# Altium footprint library CONNECTOR_WIRE2BOARD.PcbLib: 11 footprints
Each footprint in its own frame and in the unit in brackets; x right, y up, seen from the top. Pads: shape width x height; smd on the part's side, far side on the other; paste and mask are expansions set on the pad; w line width, h text height; cw(c..) or ccw(c..) is an arc to the next point about the centre after c.
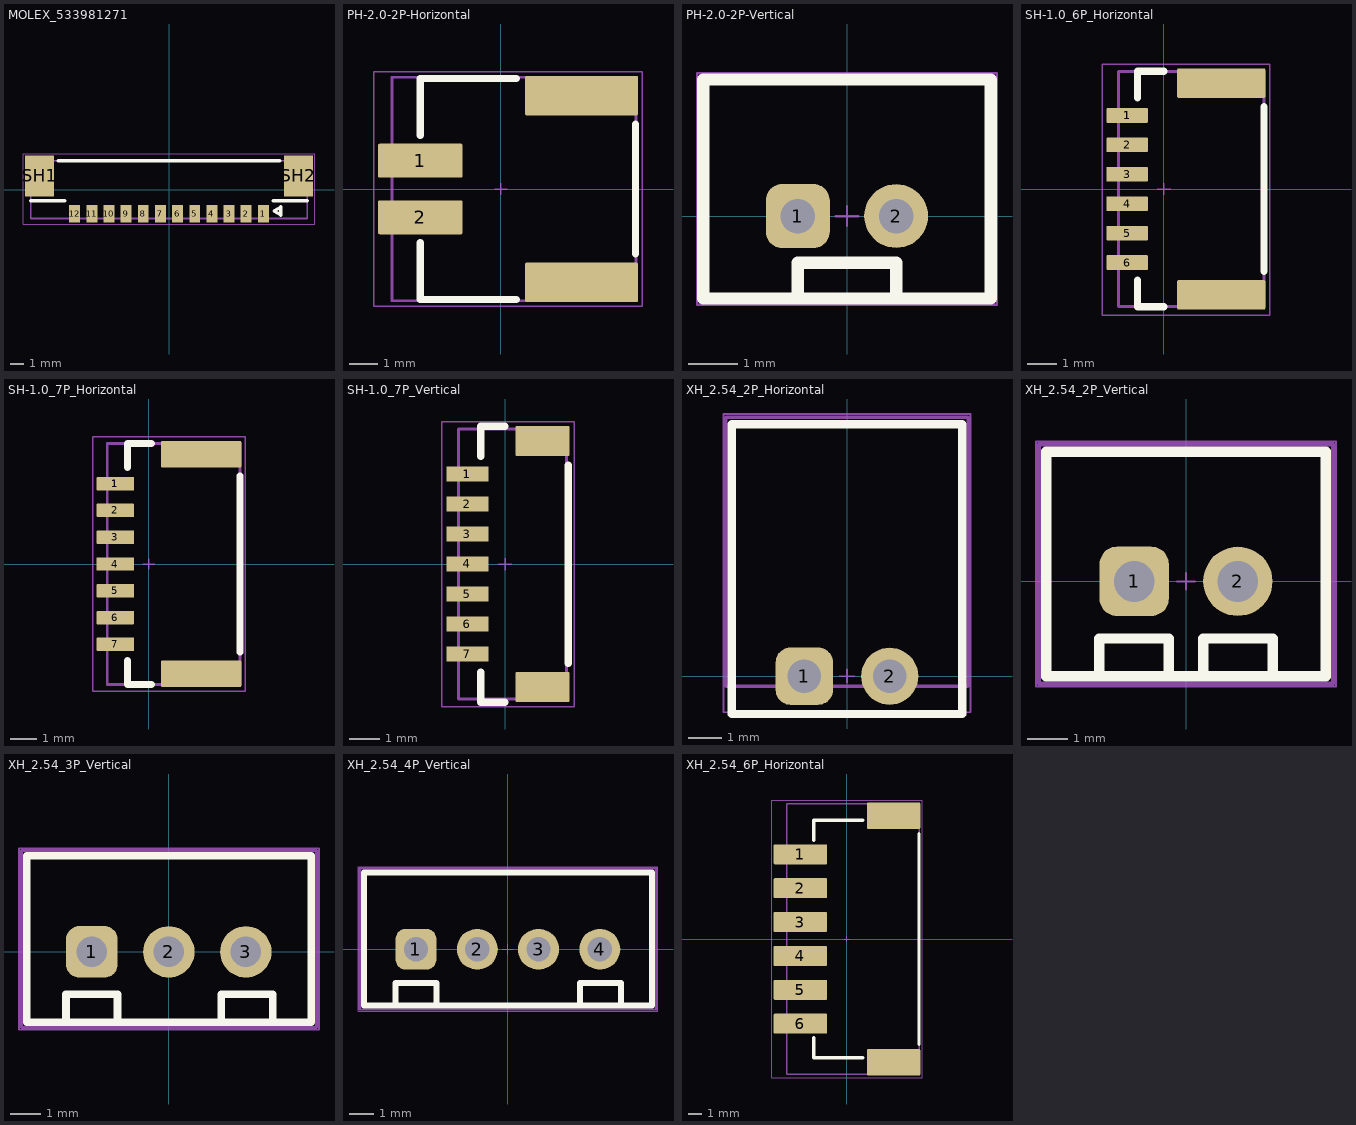
[diagram p0: the footprints below, top view; thin cyan lines are the x and y axes]

## MOLEX_533981271 [mm]
height 4.7
pads (14):
  rect 0.8x1.3 smd mask+0.076: 1(6.875,-1.75) 2(5.625,-1.75) 3(4.375,-1.75) 4(3.125,-1.75) 5(1.875,-1.75) 6(0.625,-1.75) 7(-0.625,-1.75) 8(-1.875,-1.75) 9(-3.125,-1.75) 10(-4.375,-1.75) 11(-5.625,-1.75) 12(-6.875,-1.75)
  rect 2.1x3 smd mask+0.076: SH1(-9.425,1) SH2(9.425,1)
Top Overlay:
  lines w0.25: -10.075,-0.82 -7.595,-0.82 ; -8.055,2.1 8.055,2.1 ; 7.595,-0.82 10.075,-0.82 ; 7.65,-1.55 8.15,-1.25 8.15,-1.85 7.65,-1.55
Mechanical 13:
  lines w0.127: -10.075,-2.1 -10.075,2.1 10.075,2.1 10.075,-2.1 -10.075,-2.1 ; 7.65,-1.55 8.15,-1.25 8.15,-1.85 7.65,-1.55
Mechanical 15:
  lines w0.05: -10.6,-2.5 -10.6,2.6 10.6,2.6 10.6,-2.5 -10.6,-2.5
3D body "0533981271.stp": height 4.8, standoff 0.1, extent -10.075,-2.1 10.075,2.1

## PH-2.0-2P-Horizontal [mm]
pads (4):
  rrect10% 3x1.2 smd: 1(-2.85,1) 2(-2.85,-1)
  rrect10% 4x1.4 smd: ""(2.85,-3.3) ""(2.85,3.3)
Top Overlay:
  lines w0.25: -2.85,-1.9 -2.85,-3.9 0.55,-3.9 ; -2.85,1.9 -2.85,3.9 0.55,3.9 ; 4.75,2.3 4.751,2.3 4.751,-2.3
Mechanical 13:
  lines w0.1: -3.85,-3.95 4.775,-3.95 4.775,3.95 -3.85,3.95 -3.85,-3.95
Mechanical 15:
  lines w0.05: -0.225,0 0.225,0 ; 0,-0.2 0,0.2 ; -4.5,-4.15 5,-4.15 5,4.15 3.025,4.15 -4.5,4.15 -4.5,-4.15
3D body "JST-S2B-PH-SM4-TB.STEP": height 5.61, standoff 0, extent -3.85,-3.95 4.763,3.95

## PH-2.0-2P-Vertical [mm]
pads (2):
  rrect50% 1.3x1.3 hole 0.7: 1(-1,0)
  round 1.3 hole 0.7: 2(1,0)
Top Overlay:
  lines w0.25: -1,-1.675 -1,-0.95 1,-0.95 1,-1.675 ; -2.925,-1.675 -2.925,2.775 2.925,2.775 2.925,-1.675 -2.925,-1.675
Mechanical 13:
  lines w0.1: -2.95,-1.7 -2.95,2.8 2.95,2.8 2.95,-1.7 -2.95,-1.7
Mechanical 15:
  lines w0.05: -0.225,0 0.225,0 ; 0,-0.2 0,0.2 ; -3.05,-1.8 -3.05,2.9 3.05,2.9 3.05,-1.8 -3.05,-1.8
3D body "JST-B2B-PH-K-S.STEP": height 6.05, standoff -3.35, extent -2.95,-1.7 2.95,2.8

## SH-1.0_6P_Horizontal [mm]
pads (9):
  rrect10% 1.4x0.5 smd: 1(-1.25,2.5) 1(-1.25,2.5) 2(-1.25,1.5) 3(-1.25,0.5) 4(-1.25,-0.5) 5(-1.25,-1.5) 6(-1.25,-2.5)
  rrect10% 3x1 smd: ""(1.95,-3.6) ""(1.95,3.6)
Top Overlay:
  lines w0.25: -0.9,-3.1 -0.9,-4 0,-4 ; -0.9,3.1 -0.9,4 0,4 ; 3.4,-2.8 3.4,2.8
Mechanical 13:
  lines w0.1: -1.55,-4 3.4,-4 3.4,4 -1.55,4 -1.55,-4
Mechanical 15:
  lines w0.05: -0.225,0 0.225,0 ; 0,-0.2 0,0.2 ; -2.1,-4.3 3.6,-4.3 3.6,4.25 1.675,4.25 -2.1,4.25 -2.1,-4.3
3D body "SM6B-SRSS-TB.step": height 2.9, standoff -0.05, extent -1.6,-4 3.349,4

## SH-1.0_7P_Horizontal [mm]
pads (10):
  rrect10% 1.4x0.5 smd: 1(-1.25,3) 1(-1.25,3) 2(-1.25,2) 3(-1.25,1) 4(-1.25,0) 5(-1.25,-1) 6(-1.25,-2) 7(-1.25,-3)
  rrect10% 3x1 smd: ""(1.95,-4.1) ""(1.95,4.1)
Top Overlay:
  lines w0.25: -0.8,-3.6 -0.8,-4.5 0.1,-4.5 ; -0.8,3.6 -0.8,4.5 0.1,4.5 ; 3.4,-3.3 3.4,3.3
Mechanical 13:
  lines w0.1: -1.55,-4.5 3.4,-4.5 3.4,4.5 -1.55,4.5 -1.55,-4.5
Mechanical 15:
  lines w0.05: -0.225,0 0.225,0 ; 0,-0.2 0,0.2 ; -2.1,-4.75 -2.1,4.75 1.675,4.75 3.6,4.75 3.6,-4.75 -2.1,-4.75
3D body "SM7B-SRSS-TB.step": height 2.9, standoff -0.05, extent -1.55,-4.5 3.399,4.5

## SH-1.0_7P_Vertical [mm]
pads (10):
  rrect10% 1.4x0.5 smd: 1(-1.25,3) 1(-1.25,3) 2(-1.25,2) 3(-1.25,1) 4(-1.25,0) 5(-1.25,-1) 6(-1.25,-2) 7(-1.25,-3)
  rrect10% 1.8x1 smd: ""(1.25,-4.1) ""(1.25,4.1)
Top Overlay:
  lines w0.25: -0.8,-3.6 -0.8,-4.6 0,-4.6 ; -0.8,3.6 -0.8,4.6 0,4.6 ; 2.1,-3.3 2.1,3.3
Mechanical 13:
  lines w0.1: -1.55,-4.5 -1.55,4.5 2.05,4.5 2.05,-4.5 -1.55,-4.5
Mechanical 15:
  lines w0.05: -0.225,0 0.225,0 ; 0,-0.2 0,0.2 ; -2.1,-4.75 2.3,-4.75 2.3,4.75 1.675,4.75 -2.1,4.75 -2.1,-4.75
3D body "BM7B-SRSS-TB.step": height 4.25, standoff -0.05, extent -1.55,-4.5 2.049,4.5

## XH_2.54_2P_Horizontal [mm]
pads (2):
  rrect50% 1.7x1.7 hole 1: 1(-1.27,0)
  round 1.7 hole 1: 2(1.27,0)
Top Overlay:
  lines w0.25: -3.425,-1.125 3.425,-1.125 3.425,7.5 -3.425,7.5 -3.425,-1.125
Mechanical 13:
  lines w0.1: -3.6,-0.3 -3.6,7.7 3.6,7.7 3.6,-0.3 -3.6,-0.3
Mechanical 15:
  lines w0.05: -0.225,0 0.225,0 ; 0,-0.2 0,0.2 ; -3.675,-1.075 3.675,-1.075 3.675,7.8 -3.675,7.8 -3.675,-1.075
3D body "JST - XH - Thru (R) - 2Pin - 2.54mm.stp": height 5.89, standoff -3.33, extent -3.607,-0.3 3.607,7.736

## XH_2.54_2P_Vertical [mm]
pads (2):
  rrect50% 1.7x1.7 hole 1: 1(-1.27,0)
  round 1.7 hole 1: 2(1.27,0)
Top Overlay:
  lines w0.25: -2.1,-2.325 -2.125,-2.325 -2.125,-1.4 -0.425,-1.4 -0.425,-2.325 ; 0.425,-2.325 0.425,-1.4 2.125,-1.4 2.125,-2.325 ; -3.425,-2.325 3.425,-2.325 3.425,3.175 -3.425,3.175 -3.425,-2.325
Mechanical 13:
  lines w0.1: -3.6,-2.5 -3.6,3.35 3.6,3.35 3.6,-2.5 -3.6,-2.5
Mechanical 15:
  lines w0.05: -0.225,0 0.225,0 ; 0,-0.2 0,0.2 ; -3.675,-2.575 3.675,-2.575 3.675,3.425 -3.675,3.425 -3.675,-2.575
3D body "JST - XH - Thru (V) - 2Pin - 2.54mm.stp": height 7.26, standoff -2.95, extent -3.607,-2.489 3.607,3.353

## XH_2.54_3P_Vertical [mm]
pads (3):
  rrect50% 1.7x1.7 hole 1: 1(-2.54,0)
  round 1.7 hole 1: 2(0,0) 3(2.54,0)
Top Overlay:
  lines w0.25: -3.37,-2.325 -3.395,-2.325 -3.395,-1.4 -1.695,-1.4 -1.695,-2.325 ; 1.725,-2.325 1.725,-1.4 3.425,-1.4 3.425,-2.325 ; -4.695,-2.325 4.7,-2.325 4.7,3.175 -4.695,3.175 -4.695,-2.325
Mechanical 13:
  lines w0.1: -4.87,-2.5 -4.87,3.35 4.875,3.35 4.875,-2.5 -4.87,-2.5
Mechanical 15:
  lines w0.05: -0.225,0 0.225,0 ; 0,-0.2 0,0.2 ; -4.945,-2.575 4.953,-2.575 4.953,3.425 -4.945,3.425 -4.945,-2.575
3D body "JST - XH - Thru (V) - 3Pin - 2.54mm.stp": height 7.26, standoff -2.95, extent -4.877,-2.489 4.877,3.353

## XH_2.54_4P_Vertical [mm]
pads (4):
  rrect50% 1.7x1.7 hole 1: 1(-3.81,0)
  round 1.7 hole 1: 2(-1.27,0) 3(1.27,0) 4(3.81,0)
Top Overlay:
  lines w0.25: -4.64,-2.325 -4.665,-2.325 -4.665,-1.4 -2.965,-1.4 -2.965,-2.325 ; 2.985,-2.325 2.985,-1.4 4.685,-1.4 4.685,-2.325 ; -5.965,-2.325 5.975,-2.325 5.975,3.175 -5.965,3.175 -5.965,-2.325
Mechanical 13:
  lines w0.1: -6.14,-2.5 -6.14,3.35 6.15,3.35 6.15,-2.5 -6.14,-2.5
Mechanical 15:
  lines w0.05: -0.225,0 0.225,0 ; 0,-0.2 0,0.2 ; -6.215,-2.575 6.225,-2.575 6.225,3.425 -6.215,3.425 -6.215,-2.575
3D body "JST - XH - Thru (V) - 4Pin - 2.54mm.stp": height 7.26, standoff -2.95, extent -6.147,-2.489 6.147,3.353

## XH_2.54_6P_Horizontal [mm]
pads (8):
  rrect10% 4x1.5 smd: 1(-3.5,6.35) 2(-3.5,3.81) 3(-3.5,1.27) 4(-3.5,-1.27) 5(-3.5,-3.81) 6(-3.5,-6.35)
  rrect10% 4x2 smd: ""(3.5,-9.25) ""(3.5,9.25)
Top Overlay:
  lines w0.25: -2.5,-7.4 -2.5,-8.9 1.2,-8.9 ; -2.5,7.4 -2.5,8.9 1.2,8.9 ; 5.4,-7.9 5.4,7.9
Mechanical 13:
  lines w0.1: -4.5,-10.15 5.4,-10.15 5.4,10.15 -4.5,10.15 -4.5,-10.15
Mechanical 15:
  lines w0.05: -0.225,0 0.225,0 ; 0,-0.2 0,0.2 ; -5.65,-10.4 5.65,-10.4 5.65,10.4 3.525,10.4 -5.65,10.4 -5.65,-10.4
3D body "JST - XH - SMD (R) - 6Pin - 2.54mm.stp": height 5.92, standoff 0, extent -4.5,-10.147 5.406,10.147